# Altium integrated library INDUCTOR_2020(5.5mmX4.1mm).IntLib: 1 symbol
Pins are listed as number, name and electrical type; pins without a type are passive.

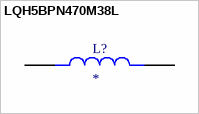
[diagram p0: symbol LQH5BPN470M38L]

## LQH5BPN470M38L
designator L?
Wire Wound Ferrite Inductor for Power Lines; MP: LQH5BPN470M38L; Package: None; Price: None; Value: *; Availability: Unavailable
footprint IND_LQH5BPN470M38L
pins: 1, 2